# Altium schematic symbol library SubAssembly.SchLib: 1 symbol
Pins are listed as number, name and electrical type; pins without a type are passive.

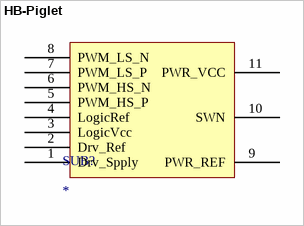
[diagram p0: symbol HB-Piglet]

## HB-Piglet
designator SUB?
Piglet board, SMD Half bridge
pins: 1 Drv_Spply, 2 Drv_Ref, 3 LogicVcc, 4 LogicRef, 5 PWM_HS_P, 6 PWM_HS_N, 7 PWM_LS_P, 8 PWM_LS_N, 9 PWR_REF, 10 SWN, 11 PWR_VCC